# EAGLE library part MICROCLASP-10-DUAL (library Molex)
Microclasp 10 crkt Header Datasheet <http://www.molex.com/pdm_docs/sd/559591030_sd.pdf>
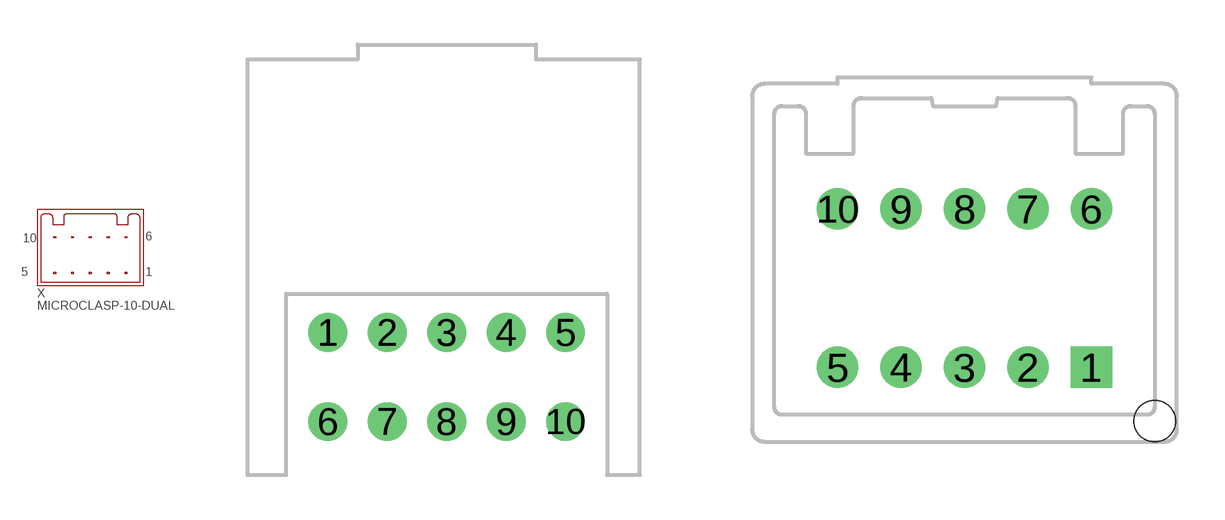
[diagram p16: symbol with the pads of MICROCLASP-10-DUAL-RA; footprints MICROCLASP-10-DUAL-RA, MICROCLASP-10-DUAL-VERT]

Designator prefix X

## MICROCLASP-10-DUAL (PARTNO: 55959-1030)  [MICROCLASP-10-DUAL-RA]
1  1
2  2
3  3
4  4
5  5
6  6
7  7
8  8
9  9
10  10

## MICROCLASP-10-DUAL-VERT (PARTNO: 55917-1010)  [MICROCLASP-10-DUAL-VERT]
Pads as for MICROCLASP-10-DUAL-RA

## Footprint MICROCLASP-10-DUAL-RA (pad centres in mm)
drill 0.8 round: 1 -4,0; 2 -2,0; 3 0,0; 4 2,0; 5 4,0; 6 -4,-3; 7 -2,-3; 8 0,-3; 9 2,-3; 10 4,-3

## Footprint MICROCLASP-10-DUAL-VERT (pad centres in mm)
Molex Micro-Clasp header, 2mm pitch, 10 circuits, through-hole, vertical Datasheet: http://www.molex.com/pdm_docs/sd/559171010_sd.pdf
drill 0.8 square: 1 4,-2.5
drill 0.8 round: 2 2,-2.5; 3 0,-2.5; 4 -2,-2.5; 5 -4,-2.5; 6 4,2.5; 7 2,2.5; 8 0,2.5; 9 -2,2.5; 10 -4,2.5
hole 1.3 at 6,-4.2